# Altium schematic symbol library 4N25.Schlib: 1 symbol
Pins are listed as number, name and electrical type; pins without a type are passive.

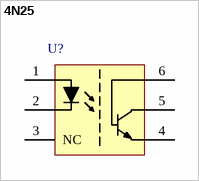
[diagram p0: symbol 4N25]

## 4N25
designator U?  (value not drawn)
Optocoupler, phototransistor output
pins: 1 A, 2 A, 3 NC, 4 C, 5 E, 6 B